# EAGLE library part IM_RELAY (library cancape)
DPDT IM style relay.
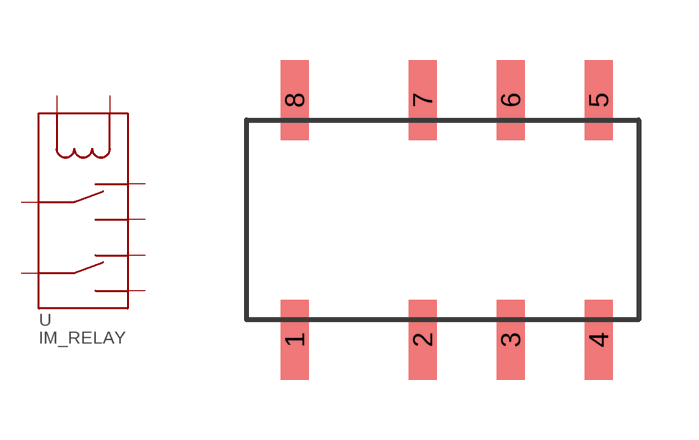
[diagram p3: symbol with the pads of IM_RELAY; footprint IM_RELAY]

Designator prefix -

## IM_RELAY  [IM_RELAY]
1  C1  pas
2  NC1  pas
3  COM1  pas
4  NO1  pas
5  NO2  pas
6  COM2  pas
7  NC2  pas
8  C2  pas

## Footprint IM_RELAY (pad centres in mm)
smd 0.7 x 2: 1 -3.2,-3; 2 0,-3; 3 2.2,-3; 4 4.4,-3; 5 4.4,3; 6 2.2,3; 7 0,3; 8 -3.2,3